# Altium integrated library TPS54302DDCT.IntLib: 1 symbol
Pins are listed as number, name and electrical type; pins without a type are passive.

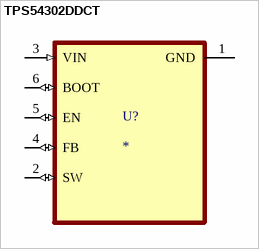
[diagram p0: symbol TPS54302DDCT]

## TPS54302DDCT
designator U?
4.5-V to 28-V Input, 3-A Output, EMI Friendly Synchronous Step-Down Converter; MF: Texas Instruments; MP: TPS54302DDCT; SnapEDA_Link: https://www.snapeda.com/parts/TPS54302DDCT/Texas+Instruments/view-part/?ref=snap; Package: SOT-23-THN-6 Texas Instruments; Value: *; Check_prices: https://www.snapeda.com/parts/TPS54302DDCT/Texas+Instruments/view-part/?ref=eda
footprint SOT95P280X110-6N
pins: 1 GND (power), 2 SW (io), 3 VIN (in), 4 FB (io), 5 EN (io), 6 BOOT (io)